# Altium footprint library Panasonic.PcbLib: 4 footprints
Each footprint in its own frame and in the unit in brackets; x right, y up, seen from the top. Pads: shape width x height; smd on the part's side, far side on the other; paste and mask are expansions set on the pad; w line width, h text height; cw(c..) or ccw(c..) is an arc to the next point about the centre after c.
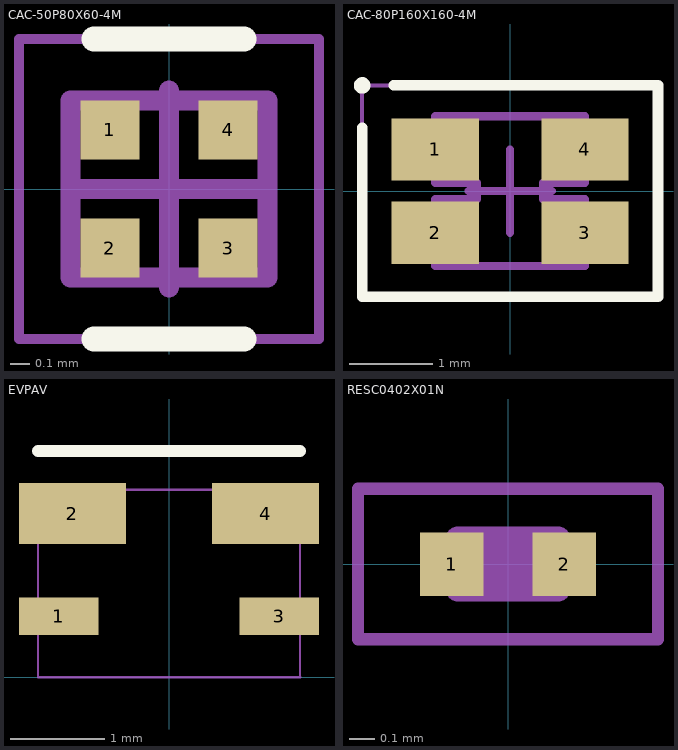
[diagram p0: the footprints below, top view; thin cyan lines are the x and y axes]

## CAC-50P80X60-4M [mm] "Chip Array, ConvexS, 4-Leads, Pitch 0.50mm,  Body 0.80x0.60mm,  IPC Low Density"
height 0.45
pads (4):
  rect 0.3x0.3 smd: 1(-0.3,0.3) 2(-0.3,-0.3) 3(0.3,-0.3) 4(0.3,0.3)
Top Overlay:
  lines w0.127: -0.381,-0.762 0.381,-0.762 ; -0.381,0.762 0.381,0.762
Mechanical 13:
  lines w0.1: -0.5,0 -0.5,0.45 0.5,0.45 0.5,0 ; -0.5,0 -0.25,0 -0.5,0 ; -0.5,0 -0.5,-0.45 0.5,-0.45 0.5,0 ; 0.5,0 0.25,0 0.5,0
Mechanical 15:
  lines w0.05: -0.762,-0.762 -0.762,0.762 0.762,0.762 0.762,-0.762 -0.762,-0.762
  lines w0.1: -0.5,0 0.5,0 ; 0,-0.5 0,0.5
3D body "CAC-50P80X60-4M.step": height 0.45, standoff 0, extent -0.4,-0.45 0.4,0.45

## CAC-80P160X160-4M [mm] "Chip Array, ConvexS, 4-Leads, Pitch 0.80mm,  Body 1.60x1.60mm,  IPC Low Density"
height 0.4
pads (4):
  rect 1.05x0.75 smd: 1(-0.9,0.5) 2(-0.9,-0.5) 3(0.9,-0.5) 4(0.9,0.5)
Top Overlay:
  circle w0.1: c-1.778,1.27 r0.05
  lines w0.127: -1.778,0.762 -1.778,-1.27 1.778,-1.27 1.778,1.27 -1.397,1.27
Mechanical 13:
  lines w0.1: -0.9,-0.9 0.9,-0.9 0.9,-0.1 0.4,-0.1 0.4,0.1 0.9,0.1 0.9,0.9 -0.9,0.9 -0.9,0.1 -0.4,0.1 -0.4,-0.1 -0.9,-0.1 -0.9,-0.9
Mechanical 15:
  lines w0.05: -1.778,-1.27 1.778,-1.27 1.778,1.27 -1.778,1.27 -1.778,-1.27
  lines w0.1: -0.5,0 0.5,0 ; 0,-0.5 0,0.5
3D body "CAC-80P160X160-4M.step": height 0.4, standoff 0, extent -0.925,-0.9 0.925,0.9

## EVPAV [mm] "SWITCH TACTILE SPST-NO 0.02A 15V"
pads (4):
  rect 0.85x0.4 smd: 1(-1.175,0.65) 3(1.175,0.65)
  rect 1.14x0.65 smd: 2(-1.03,1.745) 4(1.03,1.745)
Top Overlay:
  lines w0.127: -1.397,2.413 1.397,2.413
Mechanical 15:
  lines w0.025: 1.397,0 1.397,2 -1.397,2 -1.397,0 1.403,0
  text "PCB Edge" at -0.991,-0.398 h0.25
3D body "EVPAV.step": height 0.97, standoff -0.97, extent -1.4,-0.65 1.4,2

## RESC0402X01N [mil] "Chip Resistor, 2-Leads, Body 0.40x0.20mm, IPC Medium Density"
height 5.12
pads (2):
  rect 10x10 smd: 1(-8.86,0) 2(8.86,0)
Mechanical 13:
  lines w3.94: -7.87,-3.94 7.87,-3.94 7.87,3.94 -7.87,3.94 -7.87,-3.94
Mechanical 15:
  lines w1.97: -23.62,-11.81 23.62,-11.81 23.62,11.81 -23.62,11.81 -23.62,-11.81
  lines w3.94: -3.94,0 3.94,0 ; 0,-3.94 0,3.94
3D body "RESC0402X01N.step": height 5.12, standoff 0, extent -7.87,-3.94 7.87,3.94